# Altium schematic symbol library STM32G071CBT6TR.SchLib: 1 symbol
Pins are listed as number, name and electrical type; pins without a type are passive.

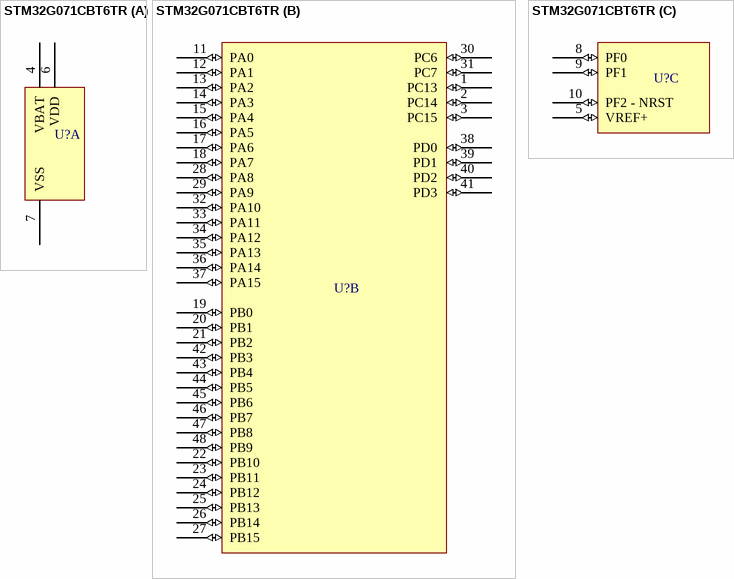
[diagram p0: symbol STM32G071CBT6TR]

## STM32G071CBT6TR
designator U?  (value not drawn)
Mainstream Arm Cortex-M0+ MCU with 128 Kbytes of Flash memory, 36 Kbytes RAM, 64 MHz CPU, 4x USART, timers, ADC, DAC, comm. I/F, 1.7-3.6V
part A pins: 4 VBAT (power), 6 VDD (power), 7 VSS (power)
part B pins: 1 PC13 (io), 2 PC14 (io), 3 PC15 (io), 11 PA0 (io), 12 PA1 (io), 13 PA2 (io), 14 PA3 (io), 15 PA4 (io), 16 PA5 (io), 17 PA6 (io), 18 PA7 (io), 19 PB0 (io), 20 PB1 (io), 21 PB2 (io), 22 PB10 (io), 23 PB11 (io), 24 PB12 (io), 25 PB13 (io), 26 PB14 (io), 27 PB15 (io), 28 PA8 (io), 29 PA9 (io), 30 PC6 (io), 31 PC7 (io), 32 PA10 (io), 33 PA11 (io), 34 PA12 (io), 35 PA13 (io), 36 PA14 (io), 37 PA15 (io), 38 PD0 (io), 39 PD1 (io), 40 PD2 (io), 41 PD3 (io), 42 PB3 (io), 43 PB4 (io), 44 PB5 (io), 45 PB6 (io), 46 PB7 (io), 47 PB8 (io), 48 PB9 (io)
part C pins: 5 VREF+ (io), 8 PF0 (io), 9 PF1 (io), 10 PF2 - NRST (io)